# EAGLE library part USB_FEMALE_A_STACKED_2 (library schematic)
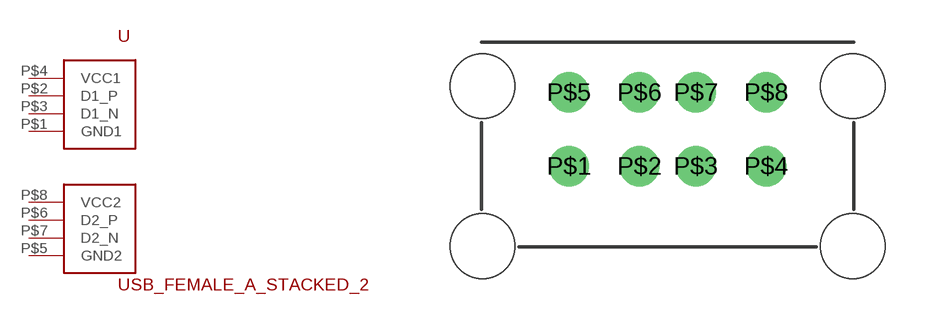
[diagram p17: symbol with the pads of USB_A_FEMALE_STACKED_2; footprint USB_A_FEMALE_STACKED_2]

Designator prefix -

## USB_FEMALE_A_STACKED_2  [USB_A_FEMALE_STACKED_2]
P$1  GND1
P$2  D1_P
P$3  D1_N
P$4  VCC1
P$5  GND2
P$6  D2_P
P$7  D2_N
P$8  VCC2

## Footprint USB_A_FEMALE_STACKED_2 (pad centres in mm)
drill 0.92: P$1 -3.5,0; P$2 -1,0; P$3 1,0; P$4 3.5,0; P$5 -3.5,2.62; P$6 -1,2.62; P$7 1,2.62; P$8 3.5,2.62
hole 2.3 at 6.57,-2.84
hole 2.3 at 6.57,2.84
hole 2.3 at -6.57,2.84
hole 2.3 at -6.57,-2.84